# Altium integrated library Altium_WCAP-CSGP_rev19b.IntLib: 939 symbols (part 13 of 16)
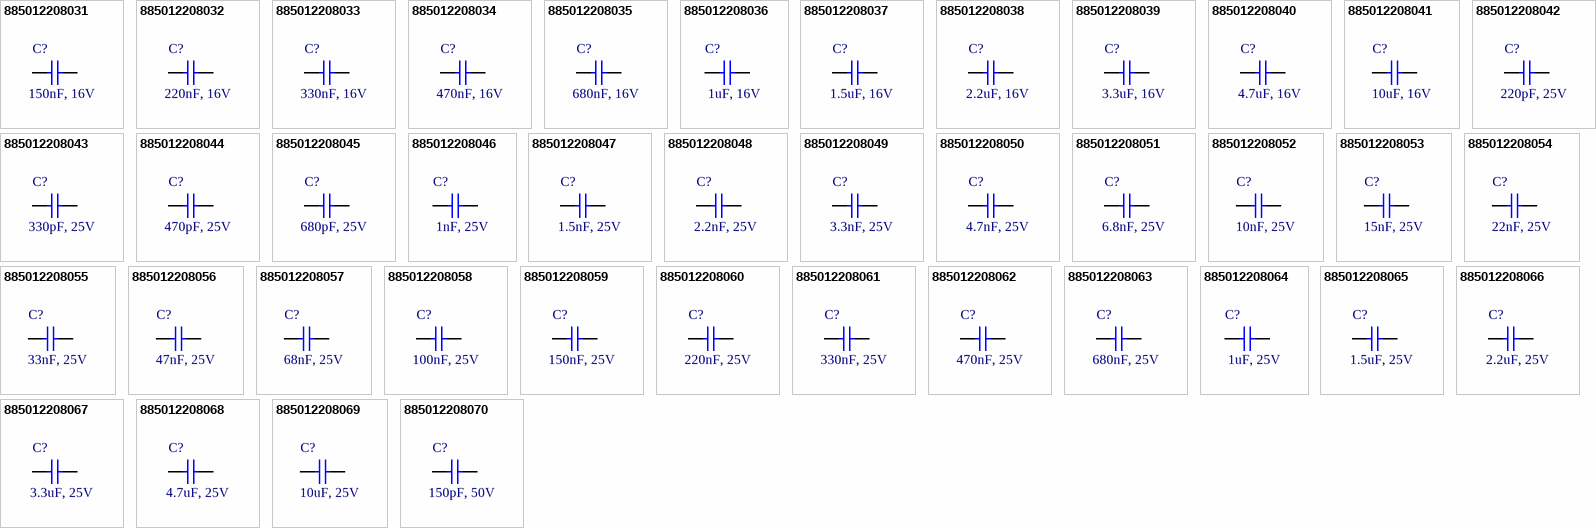
[diagram p39: symbols 885012208031 to 885012208070]

## 885012208047
designator C?, comment 1.5nF, 25V
WCAP-CSGP General Purpose Ceramic Capacitors, size 1206, 1.5nF, +/-10%, 25VDC; Part Number: 885012208047; Isolation Resistance: >=10GOhm; Ceramic Type: X7R; Technical Reference: X7R1206152K025DFCT10000; ComponentLink1Description: Manufacturer; ComponentLink1URL: http://www.we-online.de; ComponentLink2Description: Datasheet; ComponentLink2URL: https://katalog.we-online.com/pbs/datasheet/885012208047.pdf; Operating Temperature: -55 to +125degC; Packaging: Tape and Reel; Publisher: Wurth Elektronik; Rated Voltage: 25VDC; Published Date: August 2019; Capacitance Tolerance: +/-10%; Dissipation Factor: =<3.5%; Height: 0.8mm +/-0.10mm; Mounting Technology: SMT; Size: 1206; Capacitance: 1.5nF
footprint WCAP-CSGP_1206_H=0.8mm
pins: 1, 2

## 885012208048
designator C?, comment 2.2nF, 25V
WCAP-CSGP General Purpose Ceramic Capacitors, size 1206, 2.2nF, +/-10%, 25VDC; Part Number: 885012208048; Isolation Resistance: >=10GOhm; Ceramic Type: X7R; Technical Reference: X7R1206222K025DFCT10000; ComponentLink1Description: Manufacturer; ComponentLink1URL: http://www.we-online.de; ComponentLink2Description: Datasheet; ComponentLink2URL: https://katalog.we-online.com/pbs/datasheet/885012208048.pdf; Operating Temperature: -55 to +125degC; Packaging: Tape and Reel; Publisher: Wurth Elektronik; Rated Voltage: 25VDC; Published Date: August 2019; Capacitance Tolerance: +/-10%; Dissipation Factor: =<3.5%; Height: 0.8mm +/-0.10mm; Mounting Technology: SMT; Size: 1206; Capacitance: 2.2nF
footprint WCAP-CSGP_1206_H=0.8mm
pins: 1, 2

## 885012208049
designator C?, comment 3.3nF, 25V
WCAP-CSGP General Purpose Ceramic Capacitors, size 1206, 3.3nF, +/-10%, 25VDC; Part Number: 885012208049; Isolation Resistance: >=10GOhm; Ceramic Type: X7R; Technical Reference: X7R1206332K025DFCT10000; ComponentLink1Description: Manufacturer; ComponentLink1URL: http://www.we-online.de; ComponentLink2Description: Datasheet; ComponentLink2URL: https://katalog.we-online.com/pbs/datasheet/885012208049.pdf; Operating Temperature: -55 to +125degC; Packaging: Tape and Reel; Publisher: Wurth Elektronik; Rated Voltage: 25VDC; Published Date: August 2019; Capacitance Tolerance: +/-10%; Dissipation Factor: =<3.5%; Height: 0.8mm +/-0.10mm; Mounting Technology: SMT; Size: 1206; Capacitance: 3.3nF
footprint WCAP-CSGP_1206_H=0.8mm
pins: 1, 2

## 885012208050
designator C?, comment 4.7nF, 25V
WCAP-CSGP General Purpose Ceramic Capacitors, size 1206, 4.7nF, +/-10%, 25VDC; Part Number: 885012208050; Isolation Resistance: >=10GOhm; Ceramic Type: X7R; Technical Reference: X7R1206472K025DFCT10000; ComponentLink1Description: Manufacturer; ComponentLink1URL: http://www.we-online.de; ComponentLink2Description: Datasheet; ComponentLink2URL: https://katalog.we-online.com/pbs/datasheet/885012208050.pdf; Operating Temperature: -55 to +125degC; Packaging: Tape and Reel; Publisher: Wurth Elektronik; Rated Voltage: 25VDC; Published Date: August 2019; Capacitance Tolerance: +/-10%; Dissipation Factor: =<3.5%; Height: 0.8mm +/-0.10mm; Mounting Technology: SMT; Size: 1206; Capacitance: 4.7nF
footprint WCAP-CSGP_1206_H=0.8mm
pins: 1, 2

## 885012208051
designator C?, comment 6.8nF, 25V
WCAP-CSGP General Purpose Ceramic Capacitors, size 1206, 6.8nF, +/-10%, 25VDC; Part Number: 885012208051; Isolation Resistance: >=10GOhm; Ceramic Type: X7R; Technical Reference: X7R1206682K025DFCT10000; ComponentLink1Description: Manufacturer; ComponentLink1URL: http://www.we-online.de; ComponentLink2Description: Datasheet; ComponentLink2URL: https://katalog.we-online.com/pbs/datasheet/885012208051.pdf; Operating Temperature: -55 to +125degC; Packaging: Tape and Reel; Publisher: Wurth Elektronik; Rated Voltage: 25VDC; Published Date: August 2019; Capacitance Tolerance: +/-10%; Dissipation Factor: =<3.5%; Height: 0.8mm +/-0.10mm; Mounting Technology: SMT; Size: 1206; Capacitance: 6.8nF
footprint WCAP-CSGP_1206_H=0.8mm
pins: 1, 2

## 885012208052
designator C?, comment 10nF, 25V
WCAP-CSGP General Purpose Ceramic Capacitors, size 1206, 10nF, +/-10%, 25VDC; Part Number: 885012208052; Isolation Resistance: >=10GOhm; Ceramic Type: X7R; Technical Reference: X7R1206103K025DFCT10000; ComponentLink1Description: Manufacturer; ComponentLink1URL: http://www.we-online.de; ComponentLink2Description: Datasheet; ComponentLink2URL: https://katalog.we-online.com/pbs/datasheet/885012208052.pdf; Operating Temperature: -55 to +125degC; Packaging: Tape and Reel; Publisher: Wurth Elektronik; Rated Voltage: 25VDC; Published Date: August 2019; Capacitance Tolerance: +/-10%; Dissipation Factor: =<3.5%; Height: 0.8mm +/-0.10mm; Mounting Technology: SMT; Size: 1206; Capacitance: 10nF
footprint WCAP-CSGP_1206_H=0.8mm
pins: 1, 2

## 885012208053
designator C?, comment 15nF, 25V
WCAP-CSGP General Purpose Ceramic Capacitors, size 1206, 15nF, +/-10%, 25VDC; Part Number: 885012208053; Isolation Resistance: >=10GOhm; Ceramic Type: X7R; Technical Reference: X7R1206153K025DFCT10000; ComponentLink1Description: Manufacturer; ComponentLink1URL: http://www.we-online.de; ComponentLink2Description: Datasheet; ComponentLink2URL: https://katalog.we-online.com/pbs/datasheet/885012208053.pdf; Operating Temperature: -55 to +125degC; Packaging: Tape and Reel; Publisher: Wurth Elektronik; Rated Voltage: 25VDC; Published Date: August 2019; Capacitance Tolerance: +/-10%; Dissipation Factor: =<3.5%; Height: 0.8mm +/-0.10mm; Mounting Technology: SMT; Size: 1206; Capacitance: 15nF
footprint WCAP-CSGP_1206_H=0.8mm
pins: 1, 2

## 885012208054
designator C?, comment 22nF, 25V
WCAP-CSGP General Purpose Ceramic Capacitors, size 1206, 22nF, +/-10%, 25VDC; Part Number: 885012208054; Isolation Resistance: >=10GOhm; Ceramic Type: X7R; Technical Reference: X7R1206223K025DFCT10000; ComponentLink1Description: Manufacturer; ComponentLink1URL: http://www.we-online.de; ComponentLink2Description: Datasheet; ComponentLink2URL: https://katalog.we-online.com/pbs/datasheet/885012208054.pdf; Operating Temperature: -55 to +125degC; Packaging: Tape and Reel; Publisher: Wurth Elektronik; Rated Voltage: 25VDC; Published Date: August 2019; Capacitance Tolerance: +/-10%; Dissipation Factor: =<3.5%; Height: 0.8mm +/-0.10mm; Mounting Technology: SMT; Size: 1206; Capacitance: 22nF
footprint WCAP-CSGP_1206_H=0.8mm
pins: 1, 2

## 885012208055
designator C?, comment 33nF, 25V
WCAP-CSGP General Purpose Ceramic Capacitors, size 1206, 33nF, +/-10%, 25VDC; Part Number: 885012208055; Isolation Resistance: >=10GOhm; Ceramic Type: X7R; Technical Reference: X7R1206333K025DFCT10000; ComponentLink1Description: Manufacturer; ComponentLink1URL: http://www.we-online.de; ComponentLink2Description: Datasheet; ComponentLink2URL: https://katalog.we-online.com/pbs/datasheet/885012208055.pdf; Operating Temperature: -55 to +125degC; Packaging: Tape and Reel; Publisher: Wurth Elektronik; Rated Voltage: 25VDC; Published Date: August 2019; Capacitance Tolerance: +/-10%; Dissipation Factor: =<3.5%; Height: 0.8mm +/-0.10mm; Mounting Technology: SMT; Size: 1206; Capacitance: 33nF
footprint WCAP-CSGP_1206_H=0.8mm
pins: 1, 2

## 885012208056
designator C?, comment 47nF, 25V
WCAP-CSGP General Purpose Ceramic Capacitors, size 1206, 47nF, +/-10%, 25VDC; Part Number: 885012208056; Isolation Resistance: >=10GOhm; Ceramic Type: X7R; Technical Reference: X7R1206473K025DFCT10000; ComponentLink1Description: Manufacturer; ComponentLink1URL: http://www.we-online.de; ComponentLink2Description: Datasheet; ComponentLink2URL: https://katalog.we-online.com/pbs/datasheet/885012208056.pdf; Operating Temperature: -55 to +125degC; Packaging: Tape and Reel; Publisher: Wurth Elektronik; Rated Voltage: 25VDC; Published Date: August 2019; Capacitance Tolerance: +/-10%; Dissipation Factor: =<3.5%; Height: 0.8mm +/-0.10mm; Mounting Technology: SMT; Size: 1206; Capacitance: 47nF
footprint WCAP-CSGP_1206_H=0.8mm
pins: 1, 2

## 885012208057
designator C?, comment 68nF, 25V
WCAP-CSGP General Purpose Ceramic Capacitors, size 1206, 68nF, +/-10%, 25VDC; Part Number: 885012208057; Isolation Resistance: >=7.4GOhm; Ceramic Type: X7R; Technical Reference: X7R1206683K025DFCT10000; ComponentLink1Description: Manufacturer; ComponentLink1URL: http://www.we-online.de; ComponentLink2Description: Datasheet; ComponentLink2URL: https://katalog.we-online.com/pbs/datasheet/885012208057.pdf; Operating Temperature: -55 to +125degC; Packaging: Tape and Reel; Publisher: Wurth Elektronik; Rated Voltage: 25VDC; Published Date: August 2019; Capacitance Tolerance: +/-10%; Dissipation Factor: =<3.5%; Height: 0.8mm +/-0.10mm; Mounting Technology: SMT; Size: 1206; Capacitance: 68nF
footprint WCAP-CSGP_1206_H=0.8mm
pins: 1, 2

## 885012208058
designator C?, comment 100nF, 25V
WCAP-CSGP General Purpose Ceramic Capacitors, size 1206, 100nF, +/-10%, 25VDC; Part Number: 885012208058; Isolation Resistance: >=5GOhm; Ceramic Type: X7R; Technical Reference: X7R1206104K025DFCT10000; ComponentLink1Description: Manufacturer; ComponentLink1URL: http://www.we-online.de; ComponentLink2Description: Datasheet; ComponentLink2URL: https://katalog.we-online.com/pbs/datasheet/885012208058.pdf; Operating Temperature: -55 to +125degC; Packaging: Tape and Reel; Publisher: Wurth Elektronik; Rated Voltage: 25VDC; Published Date: August 2019; Capacitance Tolerance: +/-10%; Dissipation Factor: =<3.5%; Height: 0.8mm +/-0.10mm; Mounting Technology: SMT; Size: 1206; Capacitance: 100nF
footprint WCAP-CSGP_1206_H=0.8mm
pins: 1, 2

## 885012208059
designator C?, comment 150nF, 25V
WCAP-CSGP General Purpose Ceramic Capacitors, size 1206, 150nF, +/-10%, 25VDC; Part Number: 885012208059; Isolation Resistance: >=3.3GOhm; Ceramic Type: X7R; Technical Reference: X7R1206154K025DFCT10000; ComponentLink1Description: Manufacturer; ComponentLink1URL: http://www.we-online.de; ComponentLink2Description: Datasheet; ComponentLink2URL: https://katalog.we-online.com/pbs/datasheet/885012208059.pdf; Operating Temperature: -55 to +125degC; Packaging: Tape and Reel; Publisher: Wurth Elektronik; Rated Voltage: 25VDC; Published Date: August 2019; Capacitance Tolerance: +/-10%; Dissipation Factor: =<3.5%; Height: 0.95mm +/-0.10mm; Mounting Technology: SMT; Size: 1206; Capacitance: 150nF
footprint WCAP-CSGP_1206_H=0.95mm
pins: 1, 2

## 885012208060
designator C?, comment 220nF, 25V
WCAP-CSGP General Purpose Ceramic Capacitors, size 1206, 220nF, +/-10%, 25VDC; Part Number: 885012208060; Isolation Resistance: >=2.3GOhm; Ceramic Type: X7R; Technical Reference: X7R1206224K025DFCT10000; ComponentLink1Description: Manufacturer; ComponentLink1URL: http://www.we-online.de; ComponentLink2Description: Datasheet; ComponentLink2URL: https://katalog.we-online.com/pbs/datasheet/885012208060.pdf; Operating Temperature: -55 to +125degC; Packaging: Tape and Reel; Publisher: Wurth Elektronik; Rated Voltage: 25VDC; Published Date: August 2019; Capacitance Tolerance: +/-10%; Dissipation Factor: =<3.5%; Height: 0.95mm +/-0.10mm; Mounting Technology: SMT; Size: 1206; Capacitance: 220nF
footprint WCAP-CSGP_1206_H=0.95mm
pins: 1, 2

## 885012208061
designator C?, comment 330nF, 25V
WCAP-CSGP General Purpose Ceramic Capacitors, size 1206, 330nF, +/-10%, 25VDC; Part Number: 885012208061; Isolation Resistance: >=1.5GOhm; Ceramic Type: X7R; Technical Reference: X7R1206334K025DFCT10000; ComponentLink1Description: Manufacturer; ComponentLink1URL: http://www.we-online.de; ComponentLink2Description: Datasheet; ComponentLink2URL: https://katalog.we-online.com/pbs/datasheet/885012208061.pdf; Operating Temperature: -55 to +125degC; Packaging: Tape and Reel; Publisher: Wurth Elektronik; Rated Voltage: 25VDC; Published Date: August 2019; Capacitance Tolerance: +/-10%; Dissipation Factor: =<3.5%; Height: 0.95mm +/-0.10mm; Mounting Technology: SMT; Size: 1206; Capacitance: 330nF
footprint WCAP-CSGP_1206_H=0.95mm
pins: 1, 2

## 885012208062
designator C?, comment 470nF, 25V
WCAP-CSGP General Purpose Ceramic Capacitors, size 1206, 470nF, +/-10%, 25VDC; Part Number: 885012208062; Isolation Resistance: >=1.1GOhm; Ceramic Type: X7R; Technical Reference: X7R1206474K025DFCT10000; ComponentLink1Description: Manufacturer; ComponentLink1URL: http://www.we-online.de; ComponentLink2Description: Datasheet; ComponentLink2URL: https://katalog.we-online.com/pbs/datasheet/885012208062.pdf; Operating Temperature: -55 to +125degC; Packaging: Tape and Reel; Publisher: Wurth Elektronik; Rated Voltage: 25VDC; Published Date: August 2019; Capacitance Tolerance: +/-10%; Dissipation Factor: =<3.5%; Height: 1.15mm +/-0.15mm; Mounting Technology: SMT; Size: 1206; Capacitance: 470nF
footprint WCAP-CSGP_1206_H=1.15mm
pins: 1, 2

## 885012208063
designator C?, comment 680nF, 25V
WCAP-CSGP General Purpose Ceramic Capacitors, size 1206, 680nF, +/-10%, 25VDC; Part Number: 885012208063; Isolation Resistance: >=0.7GOhm; Ceramic Type: X7R; Technical Reference: X7R1206684K025DFCT10000; ComponentLink1Description: Manufacturer; ComponentLink1URL: http://www.we-online.de; ComponentLink2Description: Datasheet; ComponentLink2URL: https://katalog.we-online.com/pbs/datasheet/885012208063.pdf; Operating Temperature: -55 to +125degC; Packaging: Tape and Reel; Publisher: Wurth Elektronik; Rated Voltage: 25VDC; Published Date: August 2019; Capacitance Tolerance: +/-10%; Dissipation Factor: =<3.5%; Height: 1.15mm +/-0.15mm; Mounting Technology: SMT; Size: 1206; Capacitance: 680nF
footprint WCAP-CSGP_1206_H=1.15mm
pins: 1, 2

## 885012208064
designator C?, comment 1uF, 25V
WCAP-CSGP General Purpose Ceramic Capacitors, size 1206, 1uF, +/-10%, 25VDC; Part Number: 885012208064; Isolation Resistance: >=0.5GOhm; Ceramic Type: X7R; Technical Reference: X7R1206105K025DFCT10000; ComponentLink1Description: Manufacturer; ComponentLink1URL: http://www.we-online.de; ComponentLink2Description: Datasheet; ComponentLink2URL: https://katalog.we-online.com/pbs/datasheet/885012208064.pdf; Operating Temperature: -55 to +125degC; Packaging: Tape and Reel; Publisher: Wurth Elektronik; Rated Voltage: 25VDC; Published Date: August 2019; Capacitance Tolerance: +/-10%; Dissipation Factor: =<3.5%; Height: 1.15mm +/-0.15mm; Mounting Technology: SMT; Size: 1206; Capacitance: 1uF
footprint WCAP-CSGP_1206_H=1.15mm
pins: 1, 2

## 885012208065
designator C?, comment 1.5uF, 25V
WCAP-CSGP General Purpose Ceramic Capacitors, size 1206, 1.5uF, +/-10%, 25VDC; Part Number: 885012208065; Isolation Resistance: >=0.3GOhm; Ceramic Type: X7R; Technical Reference: X7R1206155K025DFCT10000; ComponentLink1Description: Manufacturer; ComponentLink1URL: http://www.we-online.de; ComponentLink2Description: Datasheet; ComponentLink2URL: https://katalog.we-online.com/pbs/datasheet/885012208065.pdf; Operating Temperature: -55 to +125degC; Packaging: Tape and Reel; Publisher: Wurth Elektronik; Rated Voltage: 25VDC; Published Date: August 2019; Capacitance Tolerance: +/-10%; Dissipation Factor: =<3.5%; Height: 1.6mm +0.30/-0.10mm; Mounting Technology: SMT; Size: 1206; Capacitance: 1.5uF
footprint WCAP-CSGP_1206_H=1.6mm
pins: 1, 2

## 885012208066
designator C?, comment 2.2uF, 25V
WCAP-CSGP General Purpose Ceramic Capacitors, size 1206, 2.2uF, +/-10%, 25VDC; Part Number: 885012208066; Isolation Resistance: >=0.2GOhm; Ceramic Type: X7R; Technical Reference: X7R1206225K025DFCT10000; ComponentLink1Description: Manufacturer; ComponentLink1URL: http://www.we-online.de; ComponentLink2Description: Datasheet; ComponentLink2URL: https://katalog.we-online.com/pbs/datasheet/885012208066.pdf; Operating Temperature: -55 to +125degC; Packaging: Tape and Reel; Publisher: Wurth Elektronik; Rated Voltage: 25VDC; Published Date: August 2019; Capacitance Tolerance: +/-10%; Dissipation Factor: =<3.5%; Height: 1.6mm +0.30/-0.10mm; Mounting Technology: SMT; Size: 1206; Capacitance: 2.2uF
footprint WCAP-CSGP_1206_H=1.6mm
pins: 1, 2

## 885012208067
designator C?, comment 3.3uF, 25V
WCAP-CSGP General Purpose Ceramic Capacitors, size 1206, 3.3uF, +/-10%, 25VDC; Part Number: 885012208067; Isolation Resistance: >=0.2GOhm; Ceramic Type: X7R; Technical Reference: X7R1206335K025DFCT10000; ComponentLink1Description: Manufacturer; ComponentLink1URL: http://www.we-online.de; ComponentLink2Description: Datasheet; ComponentLink2URL: https://katalog.we-online.com/pbs/datasheet/885012208067.pdf; Operating Temperature: -55 to +125degC; Packaging: Tape and Reel; Publisher: Wurth Elektronik; Rated Voltage: 25VDC; Published Date: August 2019; Capacitance Tolerance: +/-10%; Dissipation Factor: =<3.5%; Height: 1.6mm +0.30/-0.10mm; Mounting Technology: SMT; Size: 1206; Capacitance: 3.3uF
footprint WCAP-CSGP_1206_H=1.6mm
pins: 1, 2

## 885012208068
designator C?, comment 4.7uF, 25V
WCAP-CSGP General Purpose Ceramic Capacitors, size 1206, 4.7uF, +/-10%, 25VDC; Part Number: 885012208068; Isolation Resistance: >=0.1GOhm; Ceramic Type: X7R; Technical Reference: X7R1206475K025DFCT10000; ComponentLink1Description: Manufacturer; ComponentLink1URL: http://www.we-online.de; ComponentLink2Description: Datasheet; ComponentLink2URL: https://katalog.we-online.com/pbs/datasheet/885012208068.pdf; Operating Temperature: -55 to +125degC; Packaging: Tape and Reel; Publisher: Wurth Elektronik; Rated Voltage: 25VDC; Published Date: August 2019; Capacitance Tolerance: +/-10%; Dissipation Factor: =<7%; Height: 1.6mm +0.30/-0.10mm; Mounting Technology: SMT; Size: 1206; Capacitance: 4.7uF
footprint WCAP-CSGP_1206_H=1.6mm
pins: 1, 2

## 885012208069
designator C?, comment 10uF, 25V
WCAP-CSGP General Purpose Ceramic Capacitors, size 1206, 10uF, +/-10%, 25VDC; Part Number: 885012208069; Isolation Resistance: >=0.01GOhm; Ceramic Type: X7R; Technical Reference: X7R1206106K025DFCT10000; ComponentLink1Description: Manufacturer; ComponentLink1URL: http://www.we-online.de; ComponentLink2Description: Datasheet; ComponentLink2URL: https://katalog.we-online.com/pbs/datasheet/885012208069.pdf; Operating Temperature: -55 to +125degC; Packaging: Tape and Reel; Publisher: Wurth Elektronik; Rated Voltage: 25VDC; Published Date: August 2019; Capacitance Tolerance: +/-10%; Dissipation Factor: =<10%; Height: 1.6mm +/-0.20mm; Mounting Technology: SMT; Size: 1206; Capacitance: 10uF
footprint WCAP-CSGP_1206_H=1.6mm
pins: 1, 2

## 885012208070
designator C?, comment 150pF, 50V
WCAP-CSGP General Purpose Ceramic Capacitors, size 1206, 150pF, +/-10%, 50VDC; Part Number: 885012208070; Isolation Resistance: >=10GOhm; Ceramic Type: X7R; Technical Reference: X7R1206151K050DFCT10000; ComponentLink1Description: Manufacturer; ComponentLink1URL: http://www.we-online.de; ComponentLink2Description: Datasheet; ComponentLink2URL: https://katalog.we-online.com/pbs/datasheet/885012208070.pdf; Operating Temperature: -55 to +125degC; Packaging: Tape and Reel; Publisher: Wurth Elektronik; Rated Voltage: 50VDC; Published Date: August 2019; Capacitance Tolerance: +/-10%; Dissipation Factor: =<2.5%; Height: 0.8mm +/-0.10mm; Mounting Technology: SMT; Size: 1206; Capacitance: 150pF
footprint WCAP-CSGP_1206_H=0.8mm
pins: 1, 2

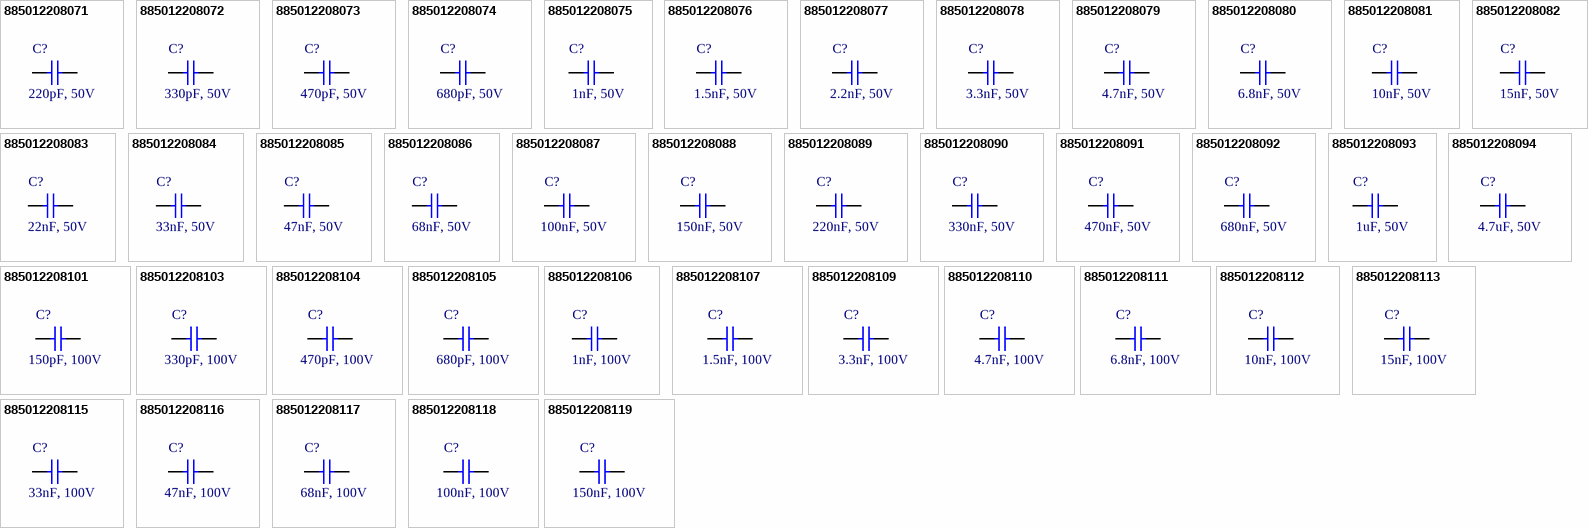
[diagram p21: symbols 885012208071 to 885012208119]

## 885012208071
designator C?, comment 220pF, 50V
WCAP-CSGP General Purpose Ceramic Capacitors, size 1206, 220pF, +/-10%, 50VDC; Part Number: 885012208071; Isolation Resistance: >=10GOhm; Ceramic Type: X7R; Technical Reference: X7R1206221K050DFCT10000; ComponentLink1Description: Manufacturer; ComponentLink1URL: http://www.we-online.de; ComponentLink2Description: Datasheet; ComponentLink2URL: https://katalog.we-online.com/pbs/datasheet/885012208071.pdf; Operating Temperature: -55 to +125degC; Packaging: Tape and Reel; Publisher: Wurth Elektronik; Rated Voltage: 50VDC; Published Date: August 2019; Capacitance Tolerance: +/-10%; Dissipation Factor: =<2.5%; Height: 0.8mm +/-0.10mm; Mounting Technology: SMT; Size: 1206; Capacitance: 220pF
footprint WCAP-CSGP_1206_H=0.8mm
pins: 1, 2

## 885012208072
designator C?, comment 330pF, 50V
WCAP-CSGP General Purpose Ceramic Capacitors, size 1206, 330pF, +/-10%, 50VDC; Part Number: 885012208072; Isolation Resistance: >=10GOhm; Ceramic Type: X7R; Technical Reference: X7R1206331K050DFCT10000; ComponentLink1Description: Manufacturer; ComponentLink1URL: http://www.we-online.de; ComponentLink2Description: Datasheet; ComponentLink2URL: https://katalog.we-online.com/pbs/datasheet/885012208072.pdf; Operating Temperature: -55 to +125degC; Packaging: Tape and Reel; Publisher: Wurth Elektronik; Rated Voltage: 50VDC; Published Date: August 2019; Capacitance Tolerance: +/-10%; Dissipation Factor: =<2.5%; Height: 0.8mm +/-0.10mm; Mounting Technology: SMT; Size: 1206; Capacitance: 330pF
footprint WCAP-CSGP_1206_H=0.8mm
pins: 1, 2

## 885012208073
designator C?, comment 470pF, 50V
WCAP-CSGP General Purpose Ceramic Capacitors, size 1206, 470pF, +/-10%, 50VDC; Part Number: 885012208073; Isolation Resistance: >=10GOhm; Ceramic Type: X7R; Technical Reference: X7R1206471K050DFCT10000; ComponentLink1Description: Manufacturer; ComponentLink1URL: http://www.we-online.de; ComponentLink2Description: Datasheet; ComponentLink2URL: https://katalog.we-online.com/pbs/datasheet/885012208073.pdf; Operating Temperature: -55 to +125degC; Packaging: Tape and Reel; Publisher: Wurth Elektronik; Rated Voltage: 50VDC; Published Date: August 2019; Capacitance Tolerance: +/-10%; Dissipation Factor: =<2.5%; Height: 0.8mm +/-0.10mm; Mounting Technology: SMT; Size: 1206; Capacitance: 470pF
footprint WCAP-CSGP_1206_H=0.8mm
pins: 1, 2

## 885012208074
designator C?, comment 680pF, 50V
WCAP-CSGP General Purpose Ceramic Capacitors, size 1206, 680pF, +/-10%, 50VDC; Part Number: 885012208074; Isolation Resistance: >=10GOhm; Ceramic Type: X7R; Technical Reference: X7R1206681K050DFCT10000; ComponentLink1Description: Manufacturer; ComponentLink1URL: http://www.we-online.de; ComponentLink2Description: Datasheet; ComponentLink2URL: https://katalog.we-online.com/pbs/datasheet/885012208074.pdf; Operating Temperature: -55 to +125degC; Packaging: Tape and Reel; Publisher: Wurth Elektronik; Rated Voltage: 50VDC; Published Date: August 2019; Capacitance Tolerance: +/-10%; Dissipation Factor: =<2.5%; Height: 0.8mm +/-0.10mm; Mounting Technology: SMT; Size: 1206; Capacitance: 680pF
footprint WCAP-CSGP_1206_H=0.8mm
pins: 1, 2

## 885012208075
designator C?, comment 1nF, 50V
WCAP-CSGP General Purpose Ceramic Capacitors, size 1206, 1nF, +/-10%, 50VDC; Part Number: 885012208075; Isolation Resistance: >=10GOhm; Ceramic Type: X7R; Technical Reference: X7R1206102K050DFCT10000; ComponentLink1Description: Manufacturer; ComponentLink1URL: http://www.we-online.de; ComponentLink2Description: Datasheet; ComponentLink2URL: https://katalog.we-online.com/pbs/datasheet/885012208075.pdf; Operating Temperature: -55 to +125degC; Packaging: Tape and Reel; Publisher: Wurth Elektronik; Rated Voltage: 50VDC; Published Date: August 2019; Capacitance Tolerance: +/-10%; Dissipation Factor: =<2.5%; Height: 0.8mm +/-0.10mm; Mounting Technology: SMT; Size: 1206; Capacitance: 1nF
footprint WCAP-CSGP_1206_H=0.8mm
pins: 1, 2

## 885012208076
designator C?, comment 1.5nF, 50V
WCAP-CSGP General Purpose Ceramic Capacitors, size 1206, 1.5nF, +/-10%, 50VDC; Part Number: 885012208076; Isolation Resistance: >=10GOhm; Ceramic Type: X7R; Technical Reference: X7R1206152K050DFCT10000; ComponentLink1Description: Manufacturer; ComponentLink1URL: http://www.we-online.de; ComponentLink2Description: Datasheet; ComponentLink2URL: https://katalog.we-online.com/pbs/datasheet/885012208076.pdf; Operating Temperature: -55 to +125degC; Packaging: Tape and Reel; Publisher: Wurth Elektronik; Rated Voltage: 50VDC; Published Date: August 2019; Capacitance Tolerance: +/-10%; Dissipation Factor: =<2.5%; Height: 0.8mm +/-0.10mm; Mounting Technology: SMT; Size: 1206; Capacitance: 1.5nF
footprint WCAP-CSGP_1206_H=0.8mm
pins: 1, 2

## 885012208077
designator C?, comment 2.2nF, 50V
WCAP-CSGP General Purpose Ceramic Capacitors, size 1206, 2.2nF, +/-10%, 50VDC; Part Number: 885012208077; Isolation Resistance: >=10GOhm; Ceramic Type: X7R; Technical Reference: X7R1206222K050DFCT10000; ComponentLink1Description: Manufacturer; ComponentLink1URL: http://www.we-online.de; ComponentLink2Description: Datasheet; ComponentLink2URL: https://katalog.we-online.com/pbs/datasheet/885012208077.pdf; Operating Temperature: -55 to +125degC; Packaging: Tape and Reel; Publisher: Wurth Elektronik; Rated Voltage: 50VDC; Published Date: August 2019; Capacitance Tolerance: +/-10%; Dissipation Factor: =<2.5%; Height: 0.8mm +/-0.10mm; Mounting Technology: SMT; Size: 1206; Capacitance: 2.2nF
footprint WCAP-CSGP_1206_H=0.8mm
pins: 1, 2

## 885012208078
designator C?, comment 3.3nF, 50V
WCAP-CSGP General Purpose Ceramic Capacitors, size 1206, 3.3nF, +/-10%, 50VDC; Part Number: 885012208078; Isolation Resistance: >=10GOhm; Ceramic Type: X7R; Technical Reference: X7R1206332K050DFCT10000; ComponentLink1Description: Manufacturer; ComponentLink1URL: http://www.we-online.de; ComponentLink2Description: Datasheet; ComponentLink2URL: https://katalog.we-online.com/pbs/datasheet/885012208078.pdf; Operating Temperature: -55 to +125degC; Packaging: Tape and Reel; Publisher: Wurth Elektronik; Rated Voltage: 50VDC; Published Date: August 2019; Capacitance Tolerance: +/-10%; Dissipation Factor: =<2.5%; Height: 0.8mm +/-0.10mm; Mounting Technology: SMT; Size: 1206; Capacitance: 3.3nF
footprint WCAP-CSGP_1206_H=0.8mm
pins: 1, 2

## 885012208079
designator C?, comment 4.7nF, 50V
WCAP-CSGP General Purpose Ceramic Capacitors, size 1206, 4.7nF, +/-10%, 50VDC; Part Number: 885012208079; Isolation Resistance: >=10GOhm; Ceramic Type: X7R; Technical Reference: X7R1206472K050DFCT10000; ComponentLink1Description: Manufacturer; ComponentLink1URL: http://www.we-online.de; ComponentLink2Description: Datasheet; ComponentLink2URL: https://katalog.we-online.com/pbs/datasheet/885012208079.pdf; Operating Temperature: -55 to +125degC; Packaging: Tape and Reel; Publisher: Wurth Elektronik; Rated Voltage: 50VDC; Published Date: August 2019; Capacitance Tolerance: +/-10%; Dissipation Factor: =<2.5%; Height: 0.8mm +/-0.10mm; Mounting Technology: SMT; Size: 1206; Capacitance: 4.7nF
footprint WCAP-CSGP_1206_H=0.8mm
pins: 1, 2

## 885012208080
designator C?, comment 6.8nF, 50V
WCAP-CSGP General Purpose Ceramic Capacitors, size 1206, 6.8nF, +/-10%, 50VDC; Part Number: 885012208080; Isolation Resistance: >=10GOhm; Ceramic Type: X7R; Technical Reference: X7R1206682K050DFCT10000; ComponentLink1Description: Manufacturer; ComponentLink1URL: http://www.we-online.de; ComponentLink2Description: Datasheet; ComponentLink2URL: https://katalog.we-online.com/pbs/datasheet/885012208080.pdf; Operating Temperature: -55 to +125degC; Packaging: Tape and Reel; Publisher: Wurth Elektronik; Rated Voltage: 50VDC; Published Date: August 2019; Capacitance Tolerance: +/-10%; Dissipation Factor: =<2.5%; Height: 0.8mm +/-0.10mm; Mounting Technology: SMT; Size: 1206; Capacitance: 6.8nF
footprint WCAP-CSGP_1206_H=0.8mm
pins: 1, 2

## 885012208081
designator C?, comment 10nF, 50V
WCAP-CSGP General Purpose Ceramic Capacitors, size 1206, 10nF, +/-10%, 50VDC; Part Number: 885012208081; Isolation Resistance: >=10GOhm; Ceramic Type: X7R; Technical Reference: X7R1206103K050DFCT10000; ComponentLink1Description: Manufacturer; ComponentLink1URL: http://www.we-online.de; ComponentLink2Description: Datasheet; ComponentLink2URL: https://katalog.we-online.com/pbs/datasheet/885012208081.pdf; Operating Temperature: -55 to +125degC; Packaging: Tape and Reel; Publisher: Wurth Elektronik; Rated Voltage: 50VDC; Published Date: August 2019; Capacitance Tolerance: +/-10%; Dissipation Factor: =<2.5%; Height: 0.8mm +/-0.10mm; Mounting Technology: SMT; Size: 1206; Capacitance: 10nF
footprint WCAP-CSGP_1206_H=0.8mm
pins: 1, 2

## 885012208082
designator C?, comment 15nF, 50V
WCAP-CSGP General Purpose Ceramic Capacitors, size 1206, 15nF, +/-10%, 50VDC; Part Number: 885012208082; Isolation Resistance: >=10GOhm; Ceramic Type: X7R; Technical Reference: X7R1206153K050DFCT10000; ComponentLink1Description: Manufacturer; ComponentLink1URL: http://www.we-online.de; ComponentLink2Description: Datasheet; ComponentLink2URL: https://katalog.we-online.com/pbs/datasheet/885012208082.pdf; Operating Temperature: -55 to +125degC; Packaging: Tape and Reel; Publisher: Wurth Elektronik; Rated Voltage: 50VDC; Published Date: August 2019; Capacitance Tolerance: +/-10%; Dissipation Factor: =<2.5%; Height: 0.8mm +/-0.10mm; Mounting Technology: SMT; Size: 1206; Capacitance: 15nF
footprint WCAP-CSGP_1206_H=0.8mm
pins: 1, 2

## 885012208083
designator C?, comment 22nF, 50V
WCAP-CSGP General Purpose Ceramic Capacitors, size 1206, 22nF, +/-10%, 50VDC; Part Number: 885012208083; Isolation Resistance: >=10GOhm; Ceramic Type: X7R; Technical Reference: X7R1206223K050DFCT10000; ComponentLink1Description: Manufacturer; ComponentLink1URL: http://www.we-online.de; ComponentLink2Description: Datasheet; ComponentLink2URL: https://katalog.we-online.com/pbs/datasheet/885012208083.pdf; Operating Temperature: -55 to +125degC; Packaging: Tape and Reel; Publisher: Wurth Elektronik; Rated Voltage: 50VDC; Published Date: August 2019; Capacitance Tolerance: +/-10%; Dissipation Factor: =<2.5%; Height: 0.8mm +/-0.10mm; Mounting Technology: SMT; Size: 1206; Capacitance: 22nF
footprint WCAP-CSGP_1206_H=0.8mm
pins: 1, 2

## 885012208084
designator C?, comment 33nF, 50V
WCAP-CSGP General Purpose Ceramic Capacitors, size 1206, 33nF, +/-10%, 50VDC; Part Number: 885012208084; Isolation Resistance: >=10GOhm; Ceramic Type: X7R; Technical Reference: X7R1206333K050DFCT10000; ComponentLink1Description: Manufacturer; ComponentLink1URL: http://www.we-online.de; ComponentLink2Description: Datasheet; ComponentLink2URL: https://katalog.we-online.com/pbs/datasheet/885012208084.pdf; Operating Temperature: -55 to +125degC; Packaging: Tape and Reel; Publisher: Wurth Elektronik; Rated Voltage: 50VDC; Published Date: August 2019; Capacitance Tolerance: +/-10%; Dissipation Factor: =<2.5%; Height: 0.8mm +/-0.10mm; Mounting Technology: SMT; Size: 1206; Capacitance: 33nF
footprint WCAP-CSGP_1206_H=0.8mm
pins: 1, 2

## 885012208085
designator C?, comment 47nF, 50V
WCAP-CSGP General Purpose Ceramic Capacitors, size 1206, 47nF, +/-10%, 50VDC; Part Number: 885012208085; Isolation Resistance: >=10GOhm; Ceramic Type: X7R; Technical Reference: X7R1206473K050DFCT10000; ComponentLink1Description: Manufacturer; ComponentLink1URL: http://www.we-online.de; ComponentLink2Description: Datasheet; ComponentLink2URL: https://katalog.we-online.com/pbs/datasheet/885012208085.pdf; Operating Temperature: -55 to +125degC; Packaging: Tape and Reel; Publisher: Wurth Elektronik; Rated Voltage: 50VDC; Published Date: August 2019; Capacitance Tolerance: +/-10%; Dissipation Factor: =<2.5%; Height: 0.8mm +/-0.10mm; Mounting Technology: SMT; Size: 1206; Capacitance: 47nF
footprint WCAP-CSGP_1206_H=0.8mm
pins: 1, 2

## 885012208086
designator C?, comment 68nF, 50V
WCAP-CSGP General Purpose Ceramic Capacitors, size 1206, 68nF, +/-10%, 50VDC; Part Number: 885012208086; Isolation Resistance: >=7.4GOhm; Ceramic Type: X7R; Technical Reference: X7R1206683K050DFCT10000; ComponentLink1Description: Manufacturer; ComponentLink1URL: http://www.we-online.de; ComponentLink2Description: Datasheet; ComponentLink2URL: https://katalog.we-online.com/pbs/datasheet/885012208086.pdf; Operating Temperature: -55 to +125degC; Packaging: Tape and Reel; Publisher: Wurth Elektronik; Rated Voltage: 50VDC; Published Date: August 2019; Capacitance Tolerance: +/-10%; Dissipation Factor: =<2.5%; Height: 0.8mm +/-0.10mm; Mounting Technology: SMT; Size: 1206; Capacitance: 68nF
footprint WCAP-CSGP_1206_H=0.8mm
pins: 1, 2

## 885012208087
designator C?, comment 100nF, 50V
WCAP-CSGP General Purpose Ceramic Capacitors, size 1206, 100nF, +/-10%, 50VDC; Part Number: 885012208087; Isolation Resistance: >=5GOhm; Ceramic Type: X7R; Technical Reference: X7R1206104K050DFCT10000; ComponentLink1Description: Manufacturer; ComponentLink1URL: http://www.we-online.de; ComponentLink2Description: Datasheet; ComponentLink2URL: https://katalog.we-online.com/pbs/datasheet/885012208087.pdf; Operating Temperature: -55 to +125degC; Packaging: Tape and Reel; Publisher: Wurth Elektronik; Rated Voltage: 50VDC; Published Date: August 2019; Capacitance Tolerance: +/-10%; Dissipation Factor: =<2.5%; Height: 0.8mm +/-0.10mm; Mounting Technology: SMT; Size: 1206; Capacitance: 100nF
footprint WCAP-CSGP_1206_H=0.8mm
pins: 1, 2

## 885012208088
designator C?, comment 150nF, 50V
WCAP-CSGP General Purpose Ceramic Capacitors, size 1206, 150nF, +/-10%, 50VDC; Part Number: 885012208088; Isolation Resistance: >=3.3GOhm; Ceramic Type: X7R; Technical Reference: X7R1206154K050DFCT10000; ComponentLink1Description: Manufacturer; ComponentLink1URL: http://www.we-online.de; ComponentLink2Description: Datasheet; ComponentLink2URL: https://katalog.we-online.com/pbs/datasheet/885012208088.pdf; Operating Temperature: -55 to +125degC; Packaging: Tape and Reel; Publisher: Wurth Elektronik; Rated Voltage: 50VDC; Published Date: August 2019; Capacitance Tolerance: +/-10%; Dissipation Factor: =<2.5%; Height: 0.95mm +/-0.10mm; Mounting Technology: SMT; Size: 1206; Capacitance: 150nF
footprint WCAP-CSGP_1206_H=0.95mm
pins: 1, 2

## 885012208089
designator C?, comment 220nF, 50V
WCAP-CSGP General Purpose Ceramic Capacitors, size 1206, 220nF, +/-10%, 50VDC; Part Number: 885012208089; Isolation Resistance: >=2.3GOhm; Ceramic Type: X7R; Technical Reference: X7R1206224K050DFCT10000; ComponentLink1Description: Manufacturer; ComponentLink1URL: http://www.we-online.de; ComponentLink2Description: Datasheet; ComponentLink2URL: https://katalog.we-online.com/pbs/datasheet/885012208089.pdf; Operating Temperature: -55 to +125degC; Packaging: Tape and Reel; Publisher: Wurth Elektronik; Rated Voltage: 50VDC; Published Date: August 2019; Capacitance Tolerance: +/-10%; Dissipation Factor: =<2.5%; Height: 0.95mm +/-0.10mm; Mounting Technology: SMT; Size: 1206; Capacitance: 220nF
footprint WCAP-CSGP_1206_H=0.95mm
pins: 1, 2

## 885012208090
designator C?, comment 330nF, 50V
WCAP-CSGP General Purpose Ceramic Capacitors, size 1206, 330nF, +/-10%, 50VDC; Part Number: 885012208090; Isolation Resistance: >=1.5GOhm; Ceramic Type: X7R; Technical Reference: X7R1206334K050DFCT10000; ComponentLink1Description: Manufacturer; ComponentLink1URL: http://www.we-online.de; ComponentLink2Description: Datasheet; ComponentLink2URL: https://katalog.we-online.com/pbs/datasheet/885012208090.pdf; Operating Temperature: -55 to +125degC; Packaging: Tape and Reel; Publisher: Wurth Elektronik; Rated Voltage: 50VDC; Published Date: August 2019; Capacitance Tolerance: +/-10%; Dissipation Factor: =<2.5%; Height: 1.25mm +/-0.10mm; Mounting Technology: SMT; Size: 1206; Capacitance: 330nF
footprint WCAP-CSGP_1206_H=1.25mm
pins: 1, 2

## 885012208091
designator C?, comment 470nF, 50V
WCAP-CSGP General Purpose Ceramic Capacitors, size 1206, 470nF, +/-10%, 50VDC; Part Number: 885012208091; Isolation Resistance: >=1.1GOhm; Ceramic Type: X7R; Technical Reference: X7R1206474K050DFCT10000; ComponentLink1Description: Manufacturer; ComponentLink1URL: http://www.we-online.de; ComponentLink2Description: Datasheet; ComponentLink2URL: https://katalog.we-online.com/pbs/datasheet/885012208091.pdf; Operating Temperature: -55 to +125degC; Packaging: Tape and Reel; Publisher: Wurth Elektronik; Rated Voltage: 50VDC; Published Date: August 2019; Capacitance Tolerance: +/-10%; Dissipation Factor: =<3%; Height: 1.6mm +0.30/-0.10mm; Mounting Technology: SMT; Size: 1206; Capacitance: 470nF
footprint WCAP-CSGP_1206_H=1.6mm
pins: 1, 2

## 885012208092
designator C?, comment 680nF, 50V
WCAP-CSGP General Purpose Ceramic Capacitors, size 1206, 680nF, +/-10%, 50VDC; Part Number: 885012208092; Isolation Resistance: >=0.7GOhm; Ceramic Type: X7R; Technical Reference: X7R1206684K050DFCT10000; ComponentLink1Description: Manufacturer; ComponentLink1URL: http://www.we-online.de; ComponentLink2Description: Datasheet; ComponentLink2URL: https://katalog.we-online.com/pbs/datasheet/885012208092.pdf; Operating Temperature: -55 to +125degC; Packaging: Tape and Reel; Publisher: Wurth Elektronik; Rated Voltage: 50VDC; Published Date: August 2019; Capacitance Tolerance: +/-10%; Dissipation Factor: =<3%; Height: 1.6mm +0.30/-0.10mm; Mounting Technology: SMT; Size: 1206; Capacitance: 680nF
footprint WCAP-CSGP_1206_H=1.6mm
pins: 1, 2

## 885012208093
designator C?, comment 1uF, 50V
WCAP-CSGP General Purpose Ceramic Capacitors, size 1206, 1uF, +/-10%, 50VDC; Part Number: 885012208093; Isolation Resistance: >=0.5GOhm; Ceramic Type: X7R; Technical Reference: X7R1206105K050DFCT10000; ComponentLink1Description: Manufacturer; ComponentLink1URL: http://www.we-online.de; ComponentLink2Description: Datasheet; ComponentLink2URL: https://katalog.we-online.com/pbs/datasheet/885012208093.pdf; Operating Temperature: -55 to +125degC; Packaging: Tape and Reel; Publisher: Wurth Elektronik; Rated Voltage: 50VDC; Published Date: August 2019; Capacitance Tolerance: +/-10%; Dissipation Factor: =<3%; Height: 1.6mm +0.30/-0.10mm; Mounting Technology: SMT; Size: 1206; Capacitance: 1uF
footprint WCAP-CSGP_1206_H=1.6mm
pins: 1, 2

## 885012208094
designator C?, comment 4.7uF, 50V
WCAP-CSGP General Purpose Ceramic Capacitors, size 1206, 4.7uF, +/-10%, 50VDC; Part Number: 885012208094; Isolation Resistance: >=0.02GOhm; Ceramic Type: X7R; Technical Reference: X7R1206475K050DFCT10000; ComponentLink1Description: Manufacturer; ComponentLink1URL: http://www.we-online.de; ComponentLink2Description: Datasheet; ComponentLink2URL: https://katalog.we-online.com/pbs/datasheet/885012208094.pdf; Operating Temperature: -55 to +125degC; Packaging: Tape and Reel; Publisher: Wurth Elektronik; Rated Voltage: 50VDC; Published Date: August 2019; Capacitance Tolerance: +/-10%; Dissipation Factor: =<10%; Height: 1.6mm +/-0.20mm; Mounting Technology: SMT; Size: 1206; Capacitance: 4.7uF
footprint WCAP-CSGP_1206_H=1.6mm
pins: 1, 2

## 885012208101
designator C?, comment 150pF, 100V
WCAP-CSGP General Purpose Ceramic Capacitors, size 1206, 150pF, +/-10%, 100VDC; Part Number: 885012208101; Isolation Resistance: >=10GOhm; Ceramic Type: X7R; Technical Reference: X7R1206151K100DFCT10000; ComponentLink1Description: Manufacturer; ComponentLink1URL: http://www.we-online.de; ComponentLink2Description: Datasheet; ComponentLink2URL: https://katalog.we-online.com/pbs/datasheet/885012208101.pdf; Operating Temperature: -55 to +125degC; Packaging: Tape and Reel; Publisher: Wurth Elektronik; Rated Voltage: 100VDC; Published Date: August 2019; Capacitance Tolerance: +/-10%; Dissipation Factor: =<2.5%; Height: 0.8mm +/-0.10mm; Mounting Technology: SMT; Size: 1206; Capacitance: 150pF
footprint WCAP-CSGP_1206_H=0.8mm
pins: 1, 2

## 885012208103
designator C?, comment 330pF, 100V
WCAP-CSGP General Purpose Ceramic Capacitors, size 1206, 330pF, +/-10%, 100VDC; Part Number: 885012208103; Isolation Resistance: >=10GOhm; Ceramic Type: X7R; Technical Reference: X7R1206331K100DFCT10000; ComponentLink1Description: Manufacturer; ComponentLink1URL: http://www.we-online.de; ComponentLink2Description: Datasheet; ComponentLink2URL: https://katalog.we-online.com/pbs/datasheet/885012208103.pdf; Operating Temperature: -55 to +125degC; Packaging: Tape and Reel; Publisher: Wurth Elektronik; Rated Voltage: 100VDC; Published Date: August 2019; Capacitance Tolerance: +/-10%; Dissipation Factor: =<2.5%; Height: 0.8mm +/-0.10mm; Mounting Technology: SMT; Size: 1206; Capacitance: 330pF
footprint WCAP-CSGP_1206_H=0.8mm
pins: 1, 2

## 885012208104
designator C?, comment 470pF, 100V
WCAP-CSGP General Purpose Ceramic Capacitors, size 1206, 470pF, +/-10%, 100VDC; Part Number: 885012208104; Isolation Resistance: >=10GOhm; Ceramic Type: X7R; Technical Reference: X7R1206471K100DFCT10000; ComponentLink1Description: Manufacturer; ComponentLink1URL: http://www.we-online.de; ComponentLink2Description: Datasheet; ComponentLink2URL: https://katalog.we-online.com/pbs/datasheet/885012208104.pdf; Operating Temperature: -55 to +125degC; Packaging: Tape and Reel; Publisher: Wurth Elektronik; Rated Voltage: 100VDC; Published Date: August 2019; Capacitance Tolerance: +/-10%; Dissipation Factor: =<2.5%; Height: 0.8mm +/-0.10mm; Mounting Technology: SMT; Size: 1206; Capacitance: 470pF
footprint WCAP-CSGP_1206_H=0.8mm
pins: 1, 2

## 885012208105
designator C?, comment 680pF, 100V
WCAP-CSGP General Purpose Ceramic Capacitors, size 1206, 680pF, +/-10%, 100VDC; Part Number: 885012208105; Isolation Resistance: >=10GOhm; Ceramic Type: X7R; Technical Reference: X7R1206681K100DFCT10000; ComponentLink1Description: Manufacturer; ComponentLink1URL: http://www.we-online.de; ComponentLink2Description: Datasheet; ComponentLink2URL: https://katalog.we-online.com/pbs/datasheet/885012208105.pdf; Operating Temperature: -55 to +125degC; Packaging: Tape and Reel; Publisher: Wurth Elektronik; Rated Voltage: 100VDC; Published Date: August 2019; Capacitance Tolerance: +/-10%; Dissipation Factor: =<2.5%; Height: 0.8mm +/-0.10mm; Mounting Technology: SMT; Size: 1206; Capacitance: 680pF
footprint WCAP-CSGP_1206_H=0.8mm
pins: 1, 2

## 885012208106
designator C?, comment 1nF, 100V
WCAP-CSGP General Purpose Ceramic Capacitors, size 1206, 1nF, +/-10%, 100VDC; Part Number: 885012208106; Isolation Resistance: >=10GOhm; Ceramic Type: X7R; Technical Reference: X7R1206102K100DFCT10000; ComponentLink1Description: Manufacturer; ComponentLink1URL: http://www.we-online.de; ComponentLink2Description: Datasheet; ComponentLink2URL: https://katalog.we-online.com/pbs/datasheet/885012208106.pdf; Operating Temperature: -55 to +125degC; Packaging: Tape and Reel; Publisher: Wurth Elektronik; Rated Voltage: 100VDC; Published Date: August 2019; Capacitance Tolerance: +/-10%; Dissipation Factor: =<2.5%; Height: 0.8mm +/-0.10mm; Mounting Technology: SMT; Size: 1206; Capacitance: 1nF
footprint WCAP-CSGP_1206_H=0.8mm
pins: 1, 2

## 885012208107
designator C?, comment 1.5nF, 100V
WCAP-CSGP General Purpose Ceramic Capacitors, size 1206, 1.5nF, +/-10%, 100VDC; Part Number: 885012208107; Isolation Resistance: >=10GOhm; Ceramic Type: X7R; Technical Reference: X7R1206152K100DFCT10000; ComponentLink1Description: Manufacturer; ComponentLink1URL: http://www.we-online.de; ComponentLink2Description: Datasheet; ComponentLink2URL: https://katalog.we-online.com/pbs/datasheet/885012208107.pdf; Operating Temperature: -55 to +125degC; Packaging: Tape and Reel; Publisher: Wurth Elektronik; Rated Voltage: 100VDC; Published Date: August 2019; Capacitance Tolerance: +/-10%; Dissipation Factor: =<2.5%; Height: 0.8mm +/-0.10mm; Mounting Technology: SMT; Size: 1206; Capacitance: 1.5nF
footprint WCAP-CSGP_1206_H=0.8mm
pins: 1, 2

## 885012208109
designator C?, comment 3.3nF, 100V
WCAP-CSGP General Purpose Ceramic Capacitors, size 1206, 3.3nF, +/-10%, 100VDC; Part Number: 885012208109; Isolation Resistance: >=10GOhm; Ceramic Type: X7R; Technical Reference: X7R1206332K100DFCT10000; ComponentLink1Description: Manufacturer; ComponentLink1URL: http://www.we-online.de; ComponentLink2Description: Datasheet; ComponentLink2URL: https://katalog.we-online.com/pbs/datasheet/885012208109.pdf; Operating Temperature: -55 to +125degC; Packaging: Tape and Reel; Publisher: Wurth Elektronik; Rated Voltage: 100VDC; Published Date: August 2019; Capacitance Tolerance: +/-10%; Dissipation Factor: =<2.5%; Height: 0.8mm +/-0.10mm; Mounting Technology: SMT; Size: 1206; Capacitance: 3.3nF
footprint WCAP-CSGP_1206_H=0.8mm
pins: 1, 2

## 885012208110
designator C?, comment 4.7nF, 100V
WCAP-CSGP General Purpose Ceramic Capacitors, size 1206, 4.7nF, +/-10%, 100VDC; Part Number: 885012208110; Isolation Resistance: >=10GOhm; Ceramic Type: X7R; Technical Reference: X7R1206472K100DFCT10000; ComponentLink1Description: Manufacturer; ComponentLink1URL: http://www.we-online.de; ComponentLink2Description: Datasheet; ComponentLink2URL: https://katalog.we-online.com/pbs/datasheet/885012208110.pdf; Operating Temperature: -55 to +125degC; Packaging: Tape and Reel; Publisher: Wurth Elektronik; Rated Voltage: 100VDC; Published Date: August 2019; Capacitance Tolerance: +/-10%; Dissipation Factor: =<2.5%; Height: 0.8mm +/-0.10mm; Mounting Technology: SMT; Size: 1206; Capacitance: 4.7nF
footprint WCAP-CSGP_1206_H=0.8mm
pins: 1, 2

## 885012208111
designator C?, comment 6.8nF, 100V
WCAP-CSGP General Purpose Ceramic Capacitors, size 1206, 6.8nF, +/-10%, 100VDC; Part Number: 885012208111; Isolation Resistance: >=10GOhm; Ceramic Type: X7R; Technical Reference: X7R1206682K100DFCT10000; ComponentLink1Description: Manufacturer; ComponentLink1URL: http://www.we-online.de; ComponentLink2Description: Datasheet; ComponentLink2URL: https://katalog.we-online.com/pbs/datasheet/885012208111.pdf; Operating Temperature: -55 to +125degC; Packaging: Tape and Reel; Publisher: Wurth Elektronik; Rated Voltage: 100VDC; Published Date: August 2019; Capacitance Tolerance: +/-10%; Dissipation Factor: =<2.5%; Height: 0.8mm +/-0.10mm; Mounting Technology: SMT; Size: 1206; Capacitance: 6.8nF
footprint WCAP-CSGP_1206_H=0.8mm
pins: 1, 2

## 885012208112
designator C?, comment 10nF, 100V
WCAP-CSGP General Purpose Ceramic Capacitors, size 1206, 10nF, +/-10%, 100VDC; Part Number: 885012208112; Isolation Resistance: >=10GOhm; Ceramic Type: X7R; Technical Reference: X7R1206103K100DFCT10000; ComponentLink1Description: Manufacturer; ComponentLink1URL: http://www.we-online.de; ComponentLink2Description: Datasheet; ComponentLink2URL: https://katalog.we-online.com/pbs/datasheet/885012208112.pdf; Operating Temperature: -55 to +125degC; Packaging: Tape and Reel; Publisher: Wurth Elektronik; Rated Voltage: 100VDC; Published Date: August 2019; Capacitance Tolerance: +/-10%; Dissipation Factor: =<2.5%; Height: 0.8mm +/-0.10mm; Mounting Technology: SMT; Size: 1206; Capacitance: 10nF
footprint WCAP-CSGP_1206_H=0.8mm
pins: 1, 2

## 885012208113
designator C?, comment 15nF, 100V
WCAP-CSGP General Purpose Ceramic Capacitors, size 1206, 15nF, +/-10%, 100VDC; Part Number: 885012208113; Isolation Resistance: >=6.7GOhm; Ceramic Type: X7R; Technical Reference: X7R1206153K100DFCT10000; ComponentLink1Description: Manufacturer; ComponentLink1URL: http://www.we-online.de; ComponentLink2Description: Datasheet; ComponentLink2URL: https://katalog.we-online.com/pbs/datasheet/885012208113.pdf; Operating Temperature: -55 to +125degC; Packaging: Tape and Reel; Publisher: Wurth Elektronik; Rated Voltage: 100VDC; Published Date: August 2019; Capacitance Tolerance: +/-10%; Dissipation Factor: =<2.5%; Height: 0.8mm +/-0.10mm; Mounting Technology: SMT; Size: 1206; Capacitance: 15nF
footprint WCAP-CSGP_1206_H=0.8mm
pins: 1, 2

## 885012208115
designator C?, comment 33nF, 100V
WCAP-CSGP General Purpose Ceramic Capacitors, size 1206, 33nF, +/-10%, 100VDC; Part Number: 885012208115; Isolation Resistance: >=3GOhm; Ceramic Type: X7R; Technical Reference: X7R1206333K100DFCT10000; ComponentLink1Description: Manufacturer; ComponentLink1URL: http://www.we-online.de; ComponentLink2Description: Datasheet; ComponentLink2URL: https://katalog.we-online.com/pbs/datasheet/885012208115.pdf; Operating Temperature: -55 to +125degC; Packaging: Tape and Reel; Publisher: Wurth Elektronik; Rated Voltage: 100VDC; Published Date: August 2019; Capacitance Tolerance: +/-10%; Dissipation Factor: =<2.5%; Height: 0.8mm +/-0.10mm; Mounting Technology: SMT; Size: 1206; Capacitance: 33nF
footprint WCAP-CSGP_1206_H=0.8mm
pins: 1, 2

## 885012208116
designator C?, comment 47nF, 100V
WCAP-CSGP General Purpose Ceramic Capacitors, size 1206, 47nF, +/-10%, 100VDC; Part Number: 885012208116; Isolation Resistance: >=2.1GOhm; Ceramic Type: X7R; Technical Reference: X7R1206473K100DFCT10000; ComponentLink1Description: Manufacturer; ComponentLink1URL: http://www.we-online.de; ComponentLink2Description: Datasheet; ComponentLink2URL: https://katalog.we-online.com/pbs/datasheet/885012208116.pdf; Operating Temperature: -55 to +125degC; Packaging: Tape and Reel; Publisher: Wurth Elektronik; Rated Voltage: 100VDC; Published Date: August 2019; Capacitance Tolerance: +/-10%; Dissipation Factor: =<2.5%; Height: 0.8mm +/-0.10mm; Mounting Technology: SMT; Size: 1206; Capacitance: 47nF
footprint WCAP-CSGP_1206_H=0.8mm
pins: 1, 2

## 885012208117
designator C?, comment 68nF, 100V
WCAP-CSGP General Purpose Ceramic Capacitors, size 1206, 68nF, +/-10%, 100VDC; Part Number: 885012208117; Isolation Resistance: >=1.5GOhm; Ceramic Type: X7R; Technical Reference: X7R1206683K100DFCT10000; ComponentLink1Description: Manufacturer; ComponentLink1URL: http://www.we-online.de; ComponentLink2Description: Datasheet; ComponentLink2URL: https://katalog.we-online.com/pbs/datasheet/885012208117.pdf; Operating Temperature: -55 to +125degC; Packaging: Tape and Reel; Publisher: Wurth Elektronik; Rated Voltage: 100VDC; Published Date: August 2019; Capacitance Tolerance: +/-10%; Dissipation Factor: =<2.5%; Height: 0.8mm +/-0.10mm; Mounting Technology: SMT; Size: 1206; Capacitance: 68nF
footprint WCAP-CSGP_1206_H=0.8mm
pins: 1, 2

## 885012208118
designator C?, comment 100nF, 100V
WCAP-CSGP General Purpose Ceramic Capacitors, size 1206, 100nF, +/-10%, 100VDC; Part Number: 885012208118; Isolation Resistance: >=1GOhm; Ceramic Type: X7R; Technical Reference: X7R1206104K100DFCT10000; ComponentLink1Description: Manufacturer; ComponentLink1URL: http://www.we-online.de; ComponentLink2Description: Datasheet; ComponentLink2URL: https://katalog.we-online.com/pbs/datasheet/885012208118.pdf; Operating Temperature: -55 to +125degC; Packaging: Tape and Reel; Publisher: Wurth Elektronik; Rated Voltage: 100VDC; Published Date: August 2019; Capacitance Tolerance: +/-10%; Dissipation Factor: =<2.5%; Height: 1.25mm +/-0.10mm; Mounting Technology: SMT; Size: 1206; Capacitance: 100nF
footprint WCAP-CSGP_1206_H=1.25mm
pins: 1, 2